# EAGLE library part KXN_HEADER_1X10 (library kxnStandard_connector)
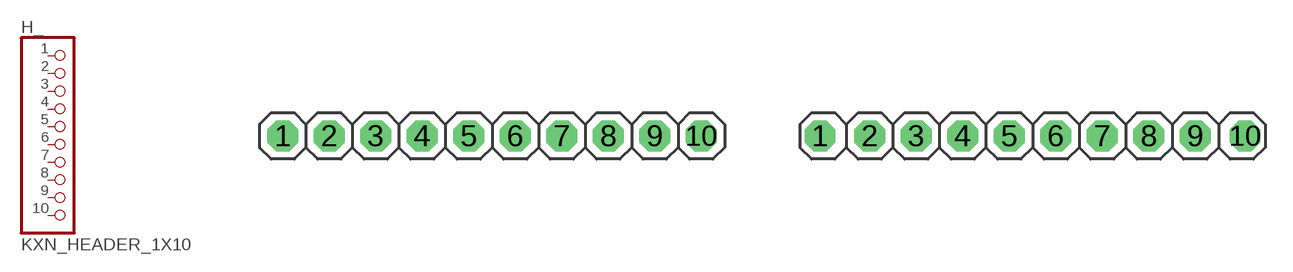
[diagram p6: symbol with the pads of HEADER_1X10_254; footprints HEADER_1X10_254, HEADER_1X10_254_LOCK]

Designator prefix H_

## KXN_HEADER_1X10 (CC_SHOP: CongCo; VALUE: HEADER_BLACK_254_1X10)  [HEADER_1X10_254]
1  1  pas
2  2  pas
3  3  pas
4  4  pas
5  5  pas
6  6  pas
7  7  pas
8  8  pas
9  9  pas
10  10  pas

## KXN_HEADER_1X10_M_LOCK (CC_SHOP: CongCo; VALUE: HEADER_BLACK_254_1X10)  [HEADER_1X10_254_LOCK]
Pads as for HEADER_1X10_254

## KXN_HEADER_1X10_2MM_CAST (CC_SHOP: CongCo)  [KXN_CASTELLATED_1X10_2MM]
Pads as for HEADER_1X10_254

## KXN_HEADER_1X10_2MM_CAST_BY_HOLE (CC_SHOP: CongCo)  [KXN_CASTELLATED_1X10_2MM_HOLE]
Pads as for HEADER_1X10_254

## KXN_HEADER_1X10_LF (CC_SHOP: CongCo)  [HEADER_1X10_LOCK_FEMALE]
Pads as for HEADER_1X10_254

## KXN_HEADER_1X10_TERMINAL_381_V1 (CC_SHOP: CongCo)  [H381_10P_SCREW_FIX_FULL]
Pads as for HEADER_1X10_254

## Footprint HEADER_1X10_254 (pad centres in mm)
drill 0.9 pad 1.676 octagon: 1 -11.43,0
drill 0.95 pad 1.676 octagon: 2 -8.89,0; 3 -6.35,0; 4 -3.81,0; 5 -1.27,0; 6 1.27,0; 7 3.81,0; 8 6.35,0; 9 8.89,0; 10 11.43,0

## Footprint HEADER_1X10_254_LOCK (pad centres in mm)
drill 0.9 pad 1.676 octagon: 1 -11.61,0
drill 0.95 pad 1.676 octagon: 2 -8.89,0; 3 -6.35,0; 4 -3.81,0; 5 -1.27,0; 6 1.27,0; 7 3.81,0; 8 6.35,0; 9 8.89,0; 10 11.61,0

## Footprint KXN_CASTELLATED_1X10_2MM (pad centres in mm)
drill 0.8 pad 1.016: 1 -9,0; 2 -7,0; 3 -5,0; 4 -3,0; 5 -1,0; 6 1,0; 7 3,0; 8 5,0; 9 7,0; 10 9,0
drill 1.35 pad 1.37: 1B -9,1.57; 1B1 -7,1.57; 1B2 -5,1.57; 1B3 -3,1.57; 1B4 -1,1.57; 1B5 1,1.57; 1B6 3,1.57; 1B7 5,1.57; 1B8 7,1.57; 1B9 9,1.57

## Footprint KXN_CASTELLATED_1X10_2MM_HOLE (pad centres in mm)
drill 0.8 pad 1.016: 1 -9,0; 2 -7,0; 3 -5,0; 4 -3,0; 5 -1,0; 6 1,0; 7 3,0; 8 5,0; 9 7,0; 10 9,0
hole 1.2 at -9,1.57
hole 1.2 at -7,1.57
hole 1.2 at -5,1.57
hole 1.2 at -3,1.57
hole 1.2 at -1,1.57
hole 1.2 at 1,1.57
hole 1.2 at 3,1.57
hole 1.2 at 5,1.57
hole 1.2 at 7,1.57
hole 1.2 at 9,1.57

## Footprint HEADER_1X10_LOCK_FEMALE (pad centres in mm)
drill 0.65 pad 1.676 octagon: 1 -11.48,0; 2 -8.89,0; 9 8.89,0; 10 11.48,0
drill 0.75 pad 1.676 octagon: 3 -6.35,0; 4 -3.81,0; 5 -1.27,0; 6 1.27,0; 7 3.81,0; 8 6.35,0

## Footprint H381_10P_SCREW_FIX_FULL (pad centres in mm)
drill 1.2 pad 1.9 octagon: 1 -17.34,0; 2 -13.335,0; 3 -9.525,0; 4 -5.715,0; 5 -1.905,0; 6 1.905,0; 7 5.715,0; 8 9.525,0; 9 13.335,0; 10 17.34,0